# Altium integrated library C1210C106K5PACTU.IntLib: 1 symbol
Pins are listed as number, name and electrical type; pins without a type are passive.

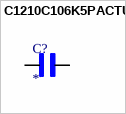
[diagram p0: symbol C1210C106K5PACTU]

## C1210C106K5PACTU
designator C?
10 ÂµF Â±10% 50V Ceramic Capacitor X5R 1210 (3225 Metric); MF: KEMET; MP: C1210C106K5PACTU; SnapEDA_Link: https://www.snapeda.com/parts/C1210C106K5PACTU/KEMET/view-part/?ref=snap; Package: 3225 KEMET; Value: *; Check_prices: https://www.snapeda.com/parts/C1210C106K5PACTU/KEMET/view-part/?ref=eda
footprint CAPC3225X280N
pins: 1, 2